# EAGLE library part ISOLATOR,QUADTTL (library QuantumOptics)
Quad Isolator Analog Devices ADUM1400xxx (alternate NVE's IL715), http://www.analog.com/UploadedFiles/Data_Sheets/1013172531ADuM1400_1_2_c.pdf
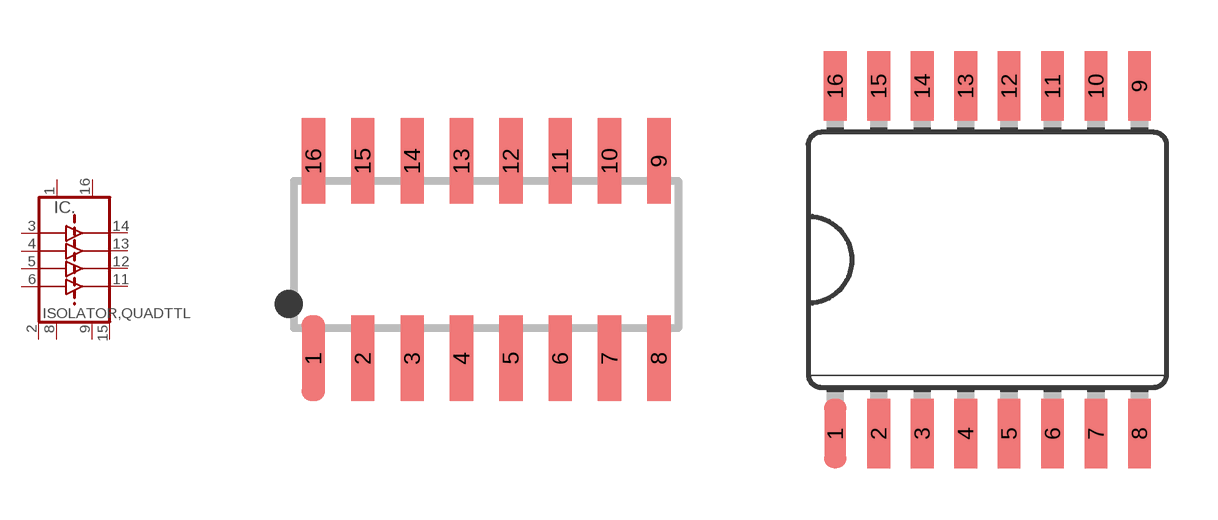
[diagram p18: symbol with the pads of SOIC-16; footprints SOIC-16, SOIC-16W]

Designator prefix IC; gates .=IL715A G$2=IL715-GATE G$3=IL715-GATE G$4=IL715-GATE G$5=IL715-GATE

## ISOLATOR,QUADTTL  [SOIC-16]
1  .:VDDIN
2  .:COM1IN
3  G$2:IN
4  G$3:IN
5  G$4:IN
6  G$5:IN
8  .:COM2IN
9  .:COM1OUT
11  G$5:Q
12  G$4:Q
13  G$3:Q
14  G$2:Q
15  .:COM2OUT
16  .:VDDOUT

## ISOLATOR,QUADTTLSOIC-16W  [SOIC-16W]
Pads as for SOIC-16

## Footprint SOIC-16 (pad centres in mm)
SOIC-16, 0.05" pad spacing with 0.15" wide case.
smd 0.6 x 2.2: 1 -3.81,-2.54; 2 -2.54,-2.54; 3 -1.27,-2.54; 4 0,-2.54; 5 1.27,-2.54; 6 2.54,-2.54; 7 3.81,-2.54; 8 5.08,-2.54; 9 5.08,2.54; 10 3.81,2.54; 11 2.54,2.54; 12 1.27,2.54; 13 0,2.54; 14 -1.27,2.54; 15 -2.54,2.54; 16 -3.81,2.54

## Footprint SOIC-16W (pad centres in mm)
SOIC-16 Wide on 0.050" grid.
smd 0.66 x 2.032: 1 -6.35,-5.08; 2 -5.08,-5.08; 3 -3.81,-5.08; 4 -2.54,-5.08; 5 -1.27,-5.08; 6 0,-5.08; 7 1.27,-5.08; 8 2.54,-5.08; 9 2.54,5.08; 10 1.27,5.08; 11 0,5.08; 12 -1.27,5.08; 13 -2.54,5.08; 14 -3.81,5.08; 15 -5.08,5.08; 16 -6.35,5.08